# EAGLE library part TLV2372 (library LEMSv2)
2-Channel Single-Supply Rail-to-Rail Op-Amp by TI
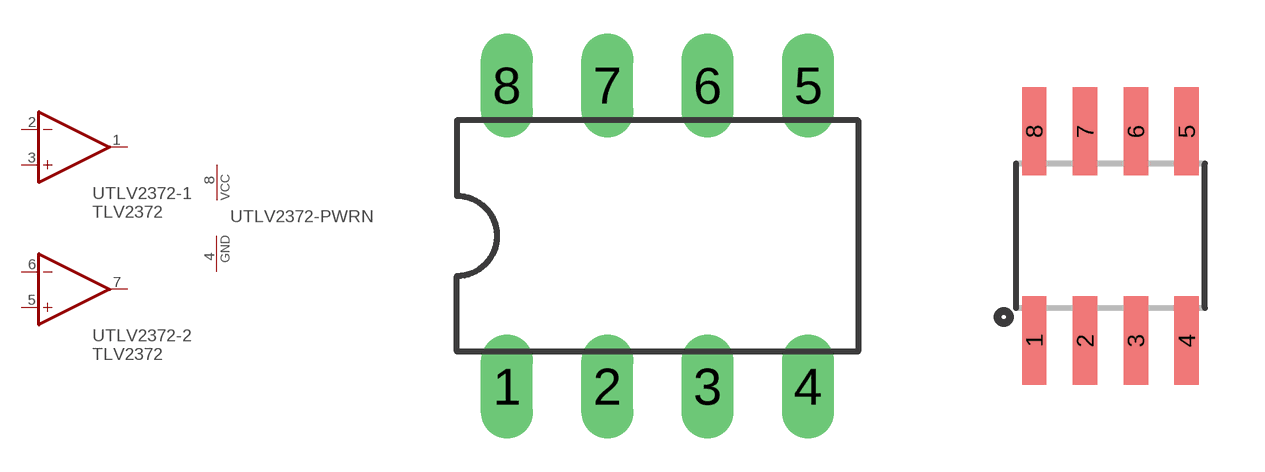
[diagram p8: symbol with the pads of DIL8; footprints DIL8, SOIC8]

Designator prefix -; gates TLV2372-1=TLV2372 TLV2372-2=TLV2372 TLV2372-PWRN=PWRN

## TLV2372P  [DIL8]
1  TLV2372-1:OUT  out
2  TLV2372-1:-IN  in
3  TLV2372-1:+IN  in
4  TLV2372-PWRN:GND  pwr
5  TLV2372-2:+IN  in
6  TLV2372-2:-IN  in
7  TLV2372-2:OUT  out
8  TLV2372-PWRN:VCC  pwr

## TLV2372  [SOIC8]
Pads as for DIL8

## Footprint DIL8 (pad centres in mm)
8-Pin Dual Inline Package
drill 0.813 long: 1 -3.81,-3.81; 2 -1.27,-3.81; 3 1.27,-3.81; 4 3.81,-3.81; 5 3.81,3.81; 6 1.27,3.81; 7 -1.27,3.81; 8 -3.81,3.81

## Footprint SOIC8 (pad centres in mm)
smd 0.61 x 2.21: 1 -1.905,-2.616; 2 -0.635,-2.616; 3 0.635,-2.616; 4 1.905,-2.616; 5 1.905,2.616; 6 0.635,2.616; 7 -0.635,2.616; 8 -1.905,2.616